# Altium footprint library ufl.PcbLib: 1 footprints
Each footprint in its own frame and in the unit in brackets; x right, y up, seen from the top. Pads: shape width x height; smd on the part's side, far side on the other; paste and mask are expansions set on the pad; w line width, h text height; cw(c..) or ccw(c..) is an arc to the next point about the centre after c.
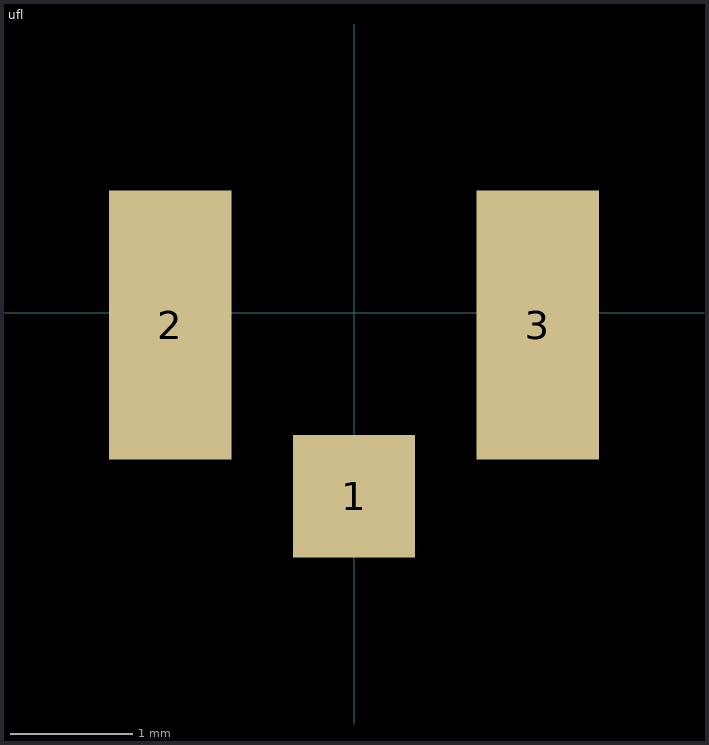
[diagram p0: the footprint, top view; thin cyan lines are the x and y axes]

## ufl [mm]
pads (3):
  rect 1x1 smd: 1(0,-1.5)
  rect 1x2.2 smd: 2(-1.5,-0.1) 3(1.5,-0.1)
3D body: height 1.25, standoff 0, extent -1.7,-1.55 1.7,1.55